# Altium footprint library VQFN-16.PcbLib: 1 footprints
Each footprint in its own frame and in the unit in brackets; x right, y up, seen from the top. Pads: shape width x height; smd on the part's side, far side on the other; paste and mask are expansions set on the pad; w line width, h text height; cw(c..) or ccw(c..) is an arc to the next point about the centre after c.
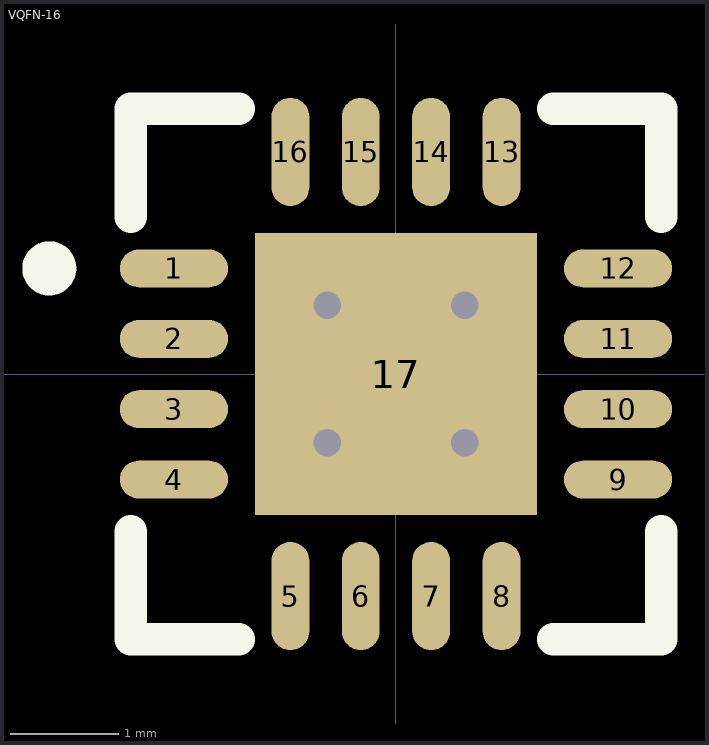
[diagram p0: the footprint, top view; thin cyan lines are the x and y axes]

## VQFN-16 [mm]
pads (17):
  oval 1x0.35 smd: 1(-2.05,0.975) 2(-2.05,0.325) 3(-2.05,-0.325) 4(-2.05,-0.975) 9(2.05,-0.975) 10(2.05,-0.325) 11(2.05,0.325) 12(2.05,0.975)
  oval 0.35x1 smd: 5(-0.975,-2.05) 6(-0.325,-2.05) 7(0.325,-2.05) 8(0.975,-2.05) 13(0.975,2.05) 14(0.325,2.05) 15(-0.325,2.05) 16(-0.975,2.05)
  rect 2.6x2.6 smd: 17(0,0)
via -0.635,0.635 diameter 0.508 hole 0.254
via 0.635,0.635 diameter 0.508 hole 0.254
via 0.635,-0.635 diameter 0.508 hole 0.254
via -0.635,-0.635 diameter 0.508 hole 0.254
Top Overlay:
  circle w0.25: c-3.2,0.975 r0.125
  lines w0.3: -2.45,-1.45 -2.45,-2.45 -1.45,-2.45 ; -2.45,1.45 -2.45,2.45 -1.45,2.45 ; 1.45,-2.45 2.45,-2.45 2.45,-1.45 ; 1.45,2.45 2.45,2.45 2.45,1.45